# Altium integrated library Atlanta Micro.IntLib: 2 symbols
Pins are listed as number, name and electrical type; pins without a type are passive.

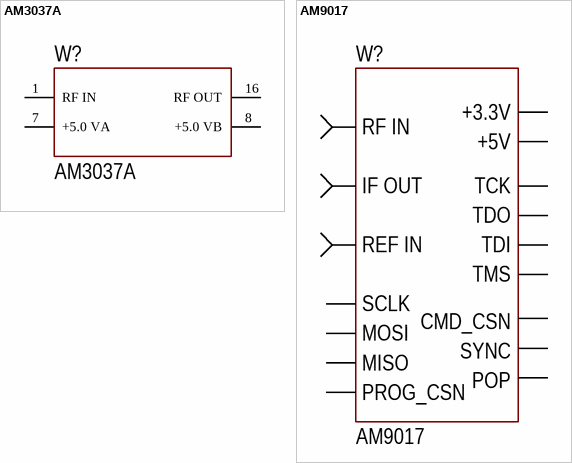
[diagram p0: symbols AM3037A to AM9017]

## AM3037A
designator W?
footprint TFN-28 (Three-Sided Flat No-Lead, 1.50mm Pitch, 18.00mm Width, 24.00mm Length, 4.00mm Height, 28 Pin)
pins: 0 hidden to GND, 1 RF IN, 2 hidden to GND, 3 hidden to GND, 4 hidden to GND, 5 hidden to GND, 6 hidden to GND, 7 +5.0 VA, 8 +5.0 VB, 9 hidden to GND, 10 hidden to GND, 11 hidden to GND, 12 hidden to GND, 13 hidden to GND, 14 hidden to GND, 15 hidden to GND, 16 RF OUT, 17 hidden to GND, 18 hidden to GND, 19 hidden to GND, 20 hidden to GND, 21 hidden to GND, 22 hidden to GND, 23 hidden to GND, 24 hidden to GND, 25 hidden to GND, 26 hidden to GND, 27 hidden to GND, 28 hidden to GND

## AM9017
designator W?
footprint AM9017
pins: 0 hidden to GND
text: +3.3V; RF IN; +5V; IF OUT; TCK; TDO; REF IN; TDI; TMS; SCLK; CMD_CSN; MOSI; SYNC; MISO; POP; PROG_CSN